# Altium schematic symbol library Components.SchLib: 30 symbols
Pins are listed as number, name and electrical type; pins without a type are passive.

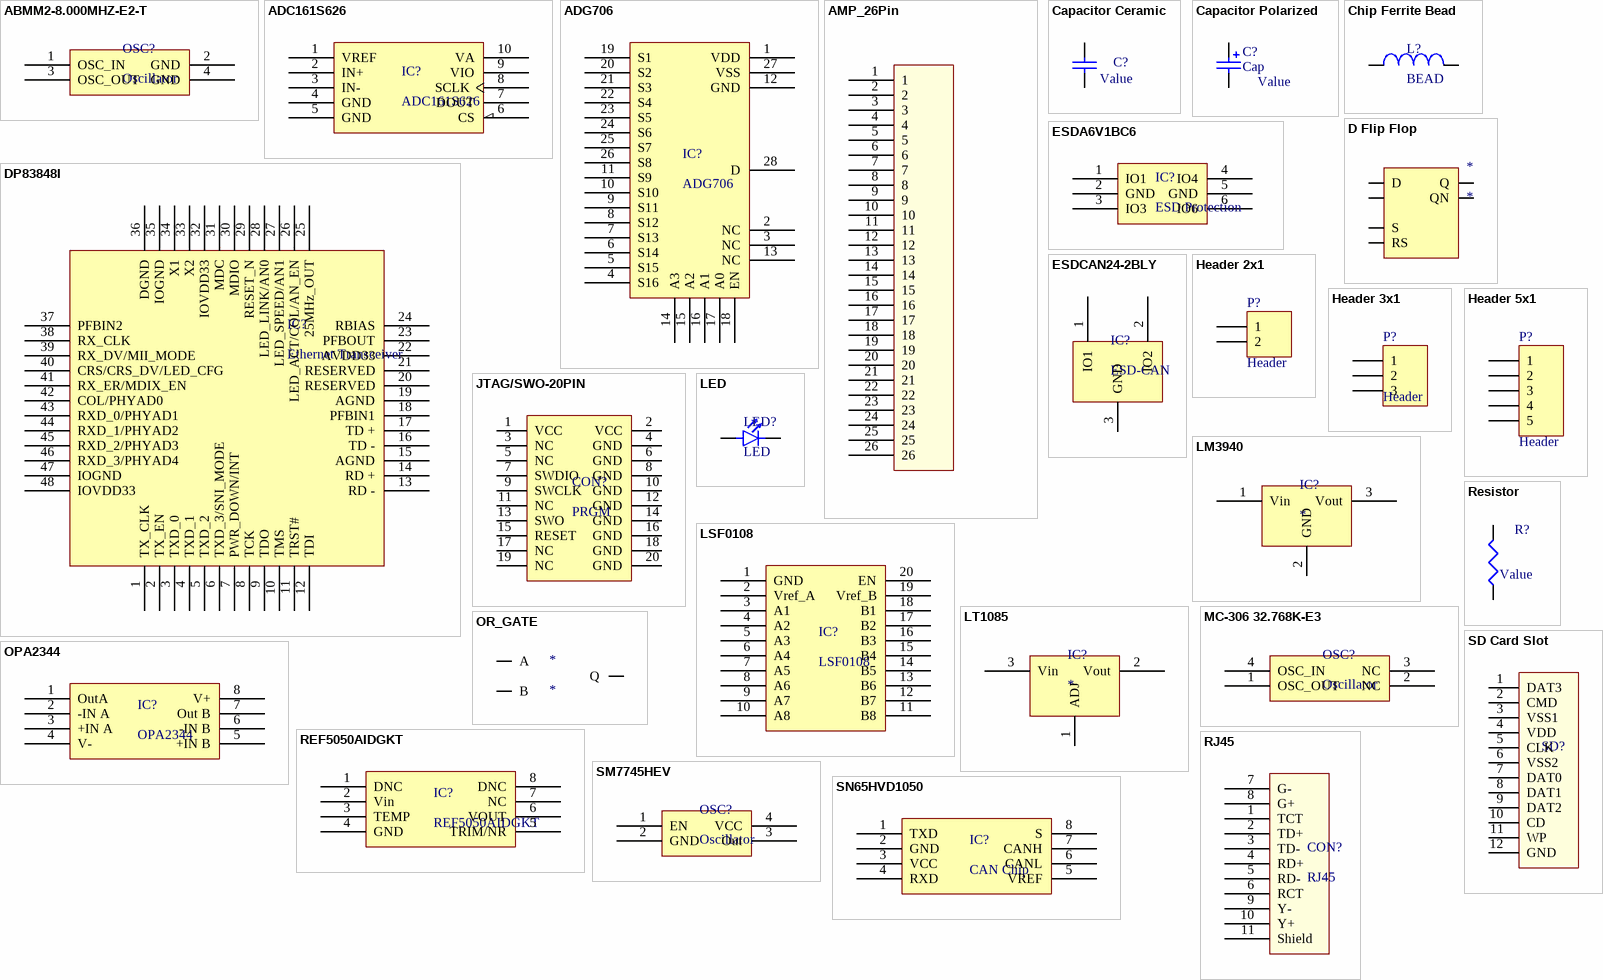
[diagram p0: symbols ABMM2-8.000MHZ-E2-T to SN65HVD1050]

## ABMM2-8.000MHZ-E2-T
designator OSC?, comment Oscillator
8MHz Oscillator
footprint ABMM2-OSC
pins: 1 OSC_IN, 2 GND, 3 OSC_OUT, 4 GND

## ADC161S626
designator IC?
TI ADC; 250ksps
footprint VSSOP-10 (DGS)
pins: 1 VREF, 2 IN+, 3 IN-, 4 GND, 5 GND, 6 CS, 7 DOUT, 8 SCLK, 9 VIO, 10 VA

## ADG706
designator IC?
16:1 Mux
footprint TSSOP-28
pins: 1 VDD, 2 NC, 3 NC, 4 S16, 5 S15, 6 S14, 7 S13, 8 S12, 9 S11, 10 S10, 11 S9, 12 GND, 13 NC, 14 A3, 15 A2, 16 A1, 17 A0, 18 EN, 19 S1, 20 S2, 21 S3, 22 S4, 23 S5, 24 S6, 25 S7, 26 S8, 27 VSS, 28 D

## AMP_26Pin
designator CON?, comment 26 Pin Conn  (value not drawn)
AMP SuperSeal 1.0 26 Pin
footprint AMP SuperSeal 1.0 26pin
pins: 1, 2, 3, 4, 5, 6, 7, 8, 9, 10, 11, 12, 13, 14, 15, 16, 17, 18, 19, 20, 21, 22, 23, 24, 25, 26

## Capacitor Ceramic
designator C?, comment Cap  (value not drawn)
Ceramic Chip Capacitor; Value: Value
footprint SMD0603
footprint SMD0805
footprint SMD1206
pins: 1, 2

## Capacitor Polarized
designator C?, comment Cap
Polarized Capacitor (Surface Mount); Value: Value
footprint SMD1206 Polarized
pins: 1, 2
1 alternate drawing of the same symbol

## Chip Ferrite Bead
designator L?, comment BEAD
Ferrite Bead; Part: BK1608HS601-TV
footprint SMD0603
pins: 1, 2

## D Flip Flop
designator *
pins: CLK, D, Q, QN, RS, S

## DP83848I
designator IC?, comment Ethernet Transceiver
Ethernet PHY IC; compatitble with DP83848C
footprint LQFP-48 (Specifically: PT (S-PQFP-G48))
pins: 1 TX_CLK, 2 TX_EN, 3 TXD_0, 4 TXD_1, 5 TXD_2, 6 TXD_3/SNI_MODE, 7 PWR_DOWN/INT, 8 TCK, 9 TDO, 10 TMS, 11 TRST#, 12 TDI, 13 RD -, 14 RD +, 15 AGND, 16 TD -, 17 TD +, 18 PFBIN1, 19 AGND, 20 RESERVED, 21 RESERVED, 22 AVDD33, 23 PFBOUT, 24 RBIAS, 25 25MHz_OUT, 26 LED_ACT/COL/AN_EN, 27 LED_SPEED/AN1, 28 LED_LINK/AN0, 29 RESET_N, 30 MDIO, 31 MDC, 32 IOVDD33, 33 X2, 34 X1, 35 IOGND, 36 DGND, 37 PFBIN2, 38 RX_CLK, 39 RX_DV/MII_MODE, 40 CRS/CRS_DV/LED_CFG, 41 RX_ER/MDIX_EN, 42 COL/PHYAD0, 43 RXD_0/PHYAD1, 44 RXD_1/PHYAD2, 45 RXD_2/PHYAD3, 46 RXD_3/PHYAD4, 47 IOGND, 48 IOVDD33

## ESDA6V1BC6
designator IC?, comment ESD Protection
4 channel bi directional ESD protection
footprint SOT23-6L
pins: 1 IO1, 2 GND, 3 IO3, 4 IO4, 5 GND, 6 IO6

## ESDCAN24-2BLY
designator IC?, comment ESD-CAN
footprint SOT-23-3
pins: 1 IO1, 2 IO2, 3 GND

## Header 2x1
designator P?, comment Header
Header, 2-Pin
footprint Header 2x1
pins: 1, 2

## Header 3x1
designator P?, comment Header
Header, 2-Pin
footprint HEADER 3X1
pins: 1, 2, 3

## Header 5x1
designator P?, comment Header
Header, 5-Pin
footprint Header 5x1
pins: 1, 2, 3, 4, 5

## JTAG/SWO-20PIN
designator CON?, comment PRGM
footprint JTAG/SWO-20PIN
pins: 1 VCC, 2 VCC, 3 NC, 4 GND, 5 NC, 6 GND, 7 SWDIO, 8 GND, 9 SWCLK, 10 GND, 11 NC, 12 GND, 13 SWO, 14 GND, 15 RESET, 16 GND, 17 NC, 18 GND, 19 NC, 20 GND

## LED
designator LED?
footprint SMD0603 POLARIZED
pins: 1 Anode (+), 2 Cathode (-)

## LM3940
designator IC?
3.3V 1A LDO
footprint LM78XX (LM78XX Voltage Reg)
footprint SOT-223
pins: 1 Vin, 2 GND, 3 Vout

## LSF0108
designator IC?
8 bit 5V to 3.3V level shifter
footprint TSSOP-20 (Specifically: PW (R-PDSO-G20))
pins: 1 GND, 2 Vref_A, 3 A1, 4 A2, 5 A3, 6 A4, 7 A5, 8 A6, 9 A7, 10 A8, 11 B8, 12 B7, 13 B6, 14 B5, 15 B4, 16 B3, 17 B2, 18 B1, 19 Vref_B, 20 EN

## LT1085
designator IC?
3A DC/DC Converter (SM)
footprint LM78XX (LM78XX Voltage Reg)
footprint DPAK - 3pin
pins: 1 ADJ, 2 Vout, 3 Vin

## MC-306 32.768K-E3
designator OSC?, comment Oscillator
32.7680kHz Oscillator
footprint MC-306-OSC
pins: 1 OSC_OUT, 2 NC, 3 NC, 4 OSC_IN

## OPA2344
designator IC?
Rail to rail opamp
footprint SOIC-8
pins: 1 OutA, 2 -IN A, 3 +IN A, 4 V-, 5 +IN B, 6 -IN B, 7 Out B, 8 V+

## OR_GATE
designator *
pins: A, B, Q

## REF5050AIDGKT
designator IC?
5V Precision Reference Voltage
footprint VSSOP-8 (DGK)
pins: 1 DNC, 2 Vin, 3 TEMP, 4 GND, 5 TRIM/NR, 6 VOUT, 7 NC, 8 DNC

## Resistor
designator R?, comment Res  (value not drawn)
Resistor; Value: Value
footprint SMD0603
footprint SMD0805
footprint SMD1206
pins: 1, 2

## RJ45
designator CON?
RJ45 Ethernet Connector with built in magnetics
footprint RJ45; pin to pad 11>S
pins: 1 TCT, 2 TD+, 3 TD-, 4 RD+, 5 RD-, 6 RCT, 7 G-, 8 G+, 9 Y-, 10 Y+, 11 Shield

## SD Card Slot
designator SD?  (value not drawn)
SD Card Connector (Amphenol)
footprint SDCARD-AMP (Amphenol 101003136802); pin to pad 12>GND
pins: 1 DAT3, 2 CMD, 3 VSS1, 4 VDD, 5 CLK, 6 VSS2, 7 DAT0, 8 DAT1, 9 DAT2, 10 CD, 11 WP, 12 GND

## SM7745HEV
designator OSC?, comment Oscillator
50Mhz Oscillator
footprint SM77H-OSC
pins: 1 EN, 2 GND, 3 Out, 4 VCC

## SN65HVD1050
designator IC?, comment CAN Chip
footprint SOIC-8
pins: 1 TXD, 2 GND, 3 VCC, 4 RXD, 5 VREF, 6 CANL, 7 CANH, 8 S

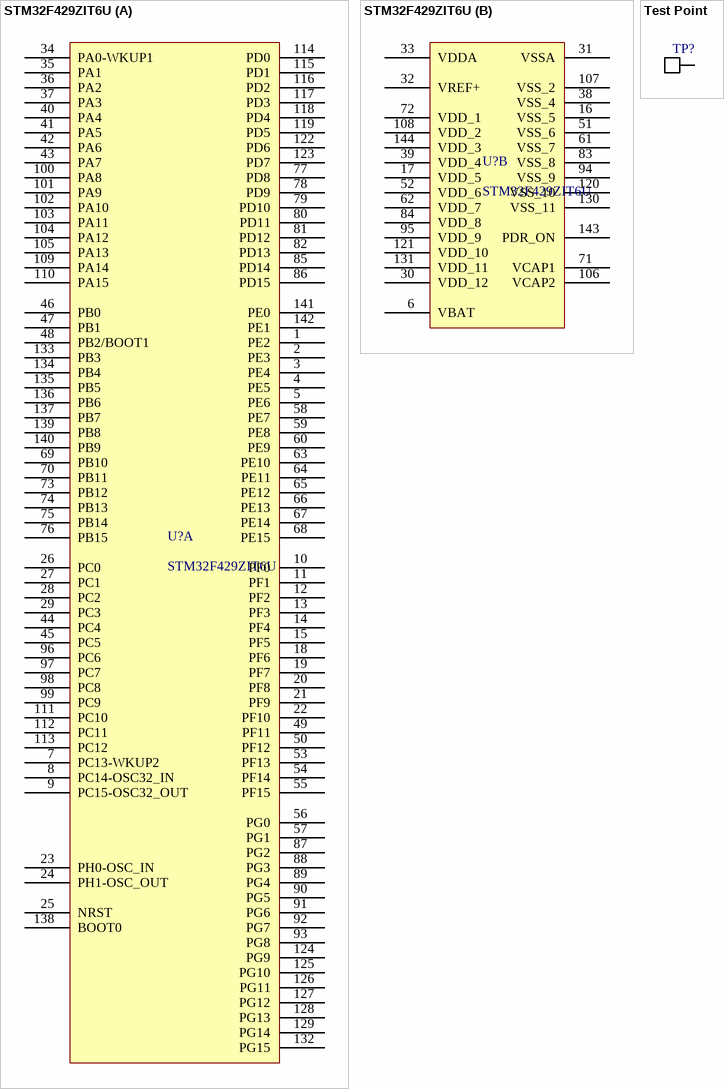
[diagram p1: symbols STM32F429ZIT6U to Test Point]

## STM32F429ZIT6U
designator U?
footprint LQPF144
part A pins: 1 PE2, 2 PE3, 3 PE4, 4 PE5, 5 PE6, 7 PC13-WKUP2, 8 PC14-OSC32_IN, 9 PC15-OSC32_OUT, 10 PF0, 11 PF1, 12 PF2, 13 PF3, 14 PF4, 15 PF5, 18 PF6, 19 PF7, 20 PF8, 21 PF9, 22 PF10, 23 PH0-OSC_IN, 24 PH1-OSC_OUT, 25 NRST, 26 PC0, 27 PC1, 28 PC2, 29 PC3, 34 PA0-WKUP1, 35 PA1, 36 PA2, 37 PA3, 40 PA4, 41 PA5, 42 PA6, 43 PA7, 44 PC4, 45 PC5, 46 PB0, 47 PB1, 48 PB2/BOOT1, 49 PF11, 50 PF12, 53 PF13, 54 PF14, 55 PF15, 56 PG0, 57 PG1, 58 PE7, 59 PE8, 60 PE9, 63 PE10, 64 PE11, 65 PE12, 66 PE13, 67 PE14, 68 PE15, 69 PB10, 70 PB11, 73 PB12, 74 PB13, 75 PB14, 76 PB15, 77 PD8, 78 PD9, 79 PD10, 80 PD11, 81 PD12, 82 PD13, 85 PD14, 86 PD15, 87 PG2, 88 PG3, 89 PG4, 90 PG5, 91 PG6, 92 PG7, 93 PG8, 96 PC6, 97 PC7, 98 PC8, 99 PC9, 100 PA8, 101 PA9, 102 PA10, 103 PA11, 104 PA12, 105 PA13, 109 PA14, 110 PA15, 111 PC10, 112 PC11, 113 PC12, 114 PD0, 115 PD1, 116 PD2, 117 PD3, 118 PD4, 119 PD5, 122 PD6, 123 PD7, 124 PG9, 125 PG10, 126 PG11, 127 PG12, 128 PG13, 129 PG14, 132 PG15, 133 PB3, 134 PB4, 135 PB5, 136 PB6, 137 PB7, 138 BOOT0, 139 PB8, 140 PB9, 141 PE0, 142 PE1
part B pins: 6 VBAT, 16 VSS_5, 17 VDD_5, 30 VDD_12, 31 VSSA, 32 VREF+, 33 VDDA, 38 VSS_4, 39 VDD_4, 51 VSS_6, 52 VDD_6, 61 VSS_7, 62 VDD_7, 71 VCAP1, 72 VDD_1, 83 VSS_8, 84 VDD_8, 94 VSS_9, 95 VDD_9, 106 VCAP2, 107 VSS_2, 108 VDD_2, 120 VSS_10, 121 VDD_10, 130 VSS_11, 131 VDD_11, 143 PDR_ON, 144 VDD_3

## Test Point
designator TP?  (value not drawn)
Supplier 1: Digi-Key; Supplier Part Number 1: 5019KCT-ND
footprint Test Point
pins: 1